# EAGLE library part CTS_065T_SPST_SLIDE_SWITCH (library Nwazet.Go)
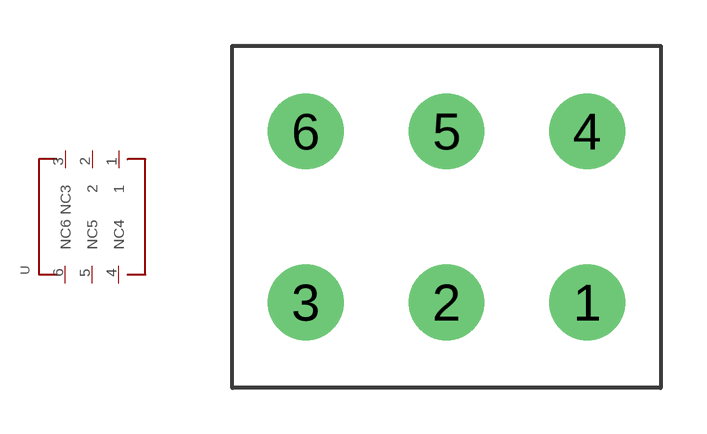
[diagram p10: symbol with the pads of CTS_065T_SPST_SLIDE_SWITCH; footprint CTS_065T_SPST_SLIDE_SWITCH]

Designator prefix -

## CTS_065T_SPST_SLIDE_SWITCH  [CTS_065T_SPST_SLIDE_SWITCH]
1  1  pas
2  2  pas
3  NC3  pas
4  NC4  pas
5  NC5  pas
6  NC6  pas

## Footprint CTS_065T_SPST_SLIDE_SWITCH (pad centres in mm)
drill 1.65: 1 4.6,-2.8; 2 0,-2.8; 3 -4.6,-2.8; 4 4.6,2.8; 5 0,2.8; 6 -4.6,2.8